# Altium footprint library Footprints V4.2.0.PcbLib: 40 footprints (part 3 of 3)
Each footprint in its own frame and in the unit in brackets; x right, y up, seen from the top. Pads: shape width x height; smd on the part's side, far side on the other; paste and mask are expansions set on the pad; w line width, h text height; cw(c..) or ccw(c..) is an arc to the next point about the centre after c.
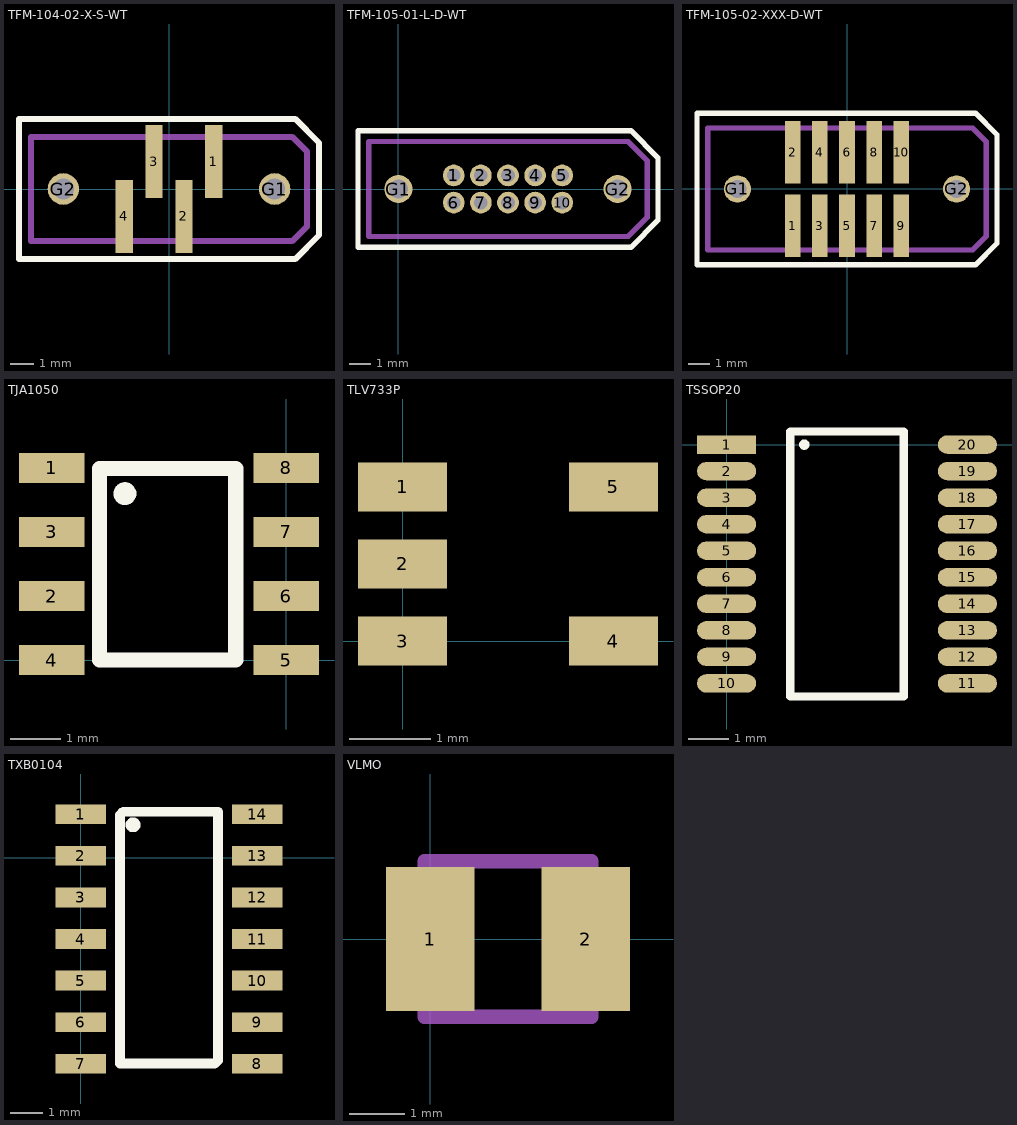
[diagram p2: the footprints below, top view; thin cyan lines are the x and y axes]

## TFM-104-02-X-S-WT [mil]
pads (6):
  rect 29x123 smd mask+2: 1(75,46) 2(25,-46) 3(-25,46) 4(-75,-46)
  round 53 hole 35 mask+3: G1(177,0) G2(-177,0)
Top Overlay:
  lines w10: -251.5,-117.5 211.5,-117.5 251.5,-77.5 251.5,77.5 211.5,117.5 -251.5,117.5 -251.5,-117.5
Mechanical 1:
  lines w10: -231.5,-87.5 206.5,-87.5 231.5,-62.5 231.5,62.5 206.5,87.5 -231.5,87.5 -231.5,-87.5
  text "J1" at -19.57,-20 h30

## TFM-105-01-L-D-WT [mil]
pads (12):
  round 40 hole 25 mask+3: 1(102,25) 2(152,25) 3(202,25) 4(252,25) 5(302,25) 6(102,-25) 7(152,-25) 8(202,-25) 9(252,-25) 10(302,-25)
  round 52 hole 35 mask+3: G1(0,0) G2(404,0)
Top Overlay:
  lines w10: -74.5,-107.5 -74.5,107.5 428.5,107.5 478.5,57.5 478.5,-57.5 428.5,-107.5 -74.5,-107.5
Mechanical 1:
  lines w10: -54.5,-87.5 -54.5,87.5 423.5,87.5 458.5,52.5 458.5,-52.5 423.5,-87.5 -54.5,-87.5

## TFM-105-02-XXX-D-WT [mil]
pads (12):
  rect 29x115 smd mask+2: 1(-100,-67.5) 2(-100,67.5) 3(-50,-67.5) 4(-50,67.5) 5(0,-67.5) 6(0,67.5) 7(50,-67.5) 8(50,67.5) 9(100,-67.5) 10(100,67.5)
  round 50 hole 33 mask+3: G1(-202,0) G2(202,0)
Top Overlay:
  lines w10: -276.5,-140 -276.5,140 236.5,140 276.5,100 276.5,-100 236.5,-140 -276.5,-140
Mechanical 1:
  lines w10: -256.5,-112.5 -256.5,112.5 231.5,112.5 256.5,87.5 256.5,-87.5 231.5,-112.5 -256.5,-112.5
  text "J1" at -19.57,-20 h30

## TJA1050 [mm] "SOT96"
pads (8):
  rect 1.3x0.6 smd: 1(-4.65,3.81) 2(-4.65,1.27) 3(-4.65,2.54) 4(-4.65,0) 5(0,0) 6(0,1.27) 7(0,2.54) 8(0,3.81)
Top Overlay:
  circle w0.254: c-3.2,3.3 r0.1
  lines w0.3: -3.7,0 -3.7,3.8 -1,3.8 -1,0 -3.7,0

## TLV733P [mm] "3.3V Converter"
pads (5):
  rect 1.1x0.6 smd: 1(0,1.9) 2(0,0.95) 3(0,0) 4(2.6,0) 5(2.6,1.9)

## TSSOP20 [mm]
pads (20):
  rect 1.45x0.45 smd: 1(0,0)
  oval 1.45x0.45 smd: 2(0,-0.65) 3(0,-1.3) 4(0,-1.95) 5(0,-2.6) 6(0,-3.25) 7(0,-3.9) 8(0,-4.55) 9(0,-5.2) 10(0,-5.85) 11(5.9,-5.85) 12(5.9,-5.2) 13(5.9,-4.55) 14(5.9,-3.9) 15(5.9,-3.25) 16(5.9,-2.6) 17(5.9,-1.95) 18(5.9,-1.3) 19(5.9,-0.65) 20(5.9,0)
Top Overlay:
  circle w0.127: c1.905,0 r0.064
  lines w0.2: 4.325,0.325 1.56,0.325 1.56,-6.175 4.34,-6.175 4.34,0.325
3D body "PW0020A.stp": height 1.13, standoff 0, extent -0.275,-6.175 6.125,0.325

## TXB0104 [mm] "SOIC14"
pads (14):
  rect 1.55x0.6 smd: 1(0,1.32) 2(0,0.05) 3(0,-1.22) 4(0,-2.49) 5(0,-3.76) 6(0,-5.03) 7(0,-6.3) 8(5.4,-6.3) 9(5.4,-5.03) 10(5.4,-3.76) 11(5.4,-2.49) 12(5.4,-1.22) 13(5.4,0.05) 14(5.4,1.32)
Top Overlay:
  circle w0.254: c1.6,1 r0.1
  lines w0.3: 1.2,-6.3 1.2,1.3 1.3,1.4 4.2,1.4 4.2,-6.2 4.1,-6.3 1.2,-6.3

## VLMO [mm] "Vishay - VLMO31K1L2-GS08"
pads (2):
  rect 1.6x2.6 smd: 1(0,0) 2(2.8,0)
Mechanical 1:
  lines w0.254: -0.1,-1.4 -0.1,1.4 2.9,1.4 2.9,-1.4 -0.1,-1.4